# EAGLE library part HDSP-523A (library HDSP-523A)
LED Displays & Accessories Red 643nm 0.56in 7 Segment Source: Datasheet <https://docs.broadcom.com/doc/HDSP-521A-523A-Dual-Digit-General-Purpose-7-Segment-Display-DS>
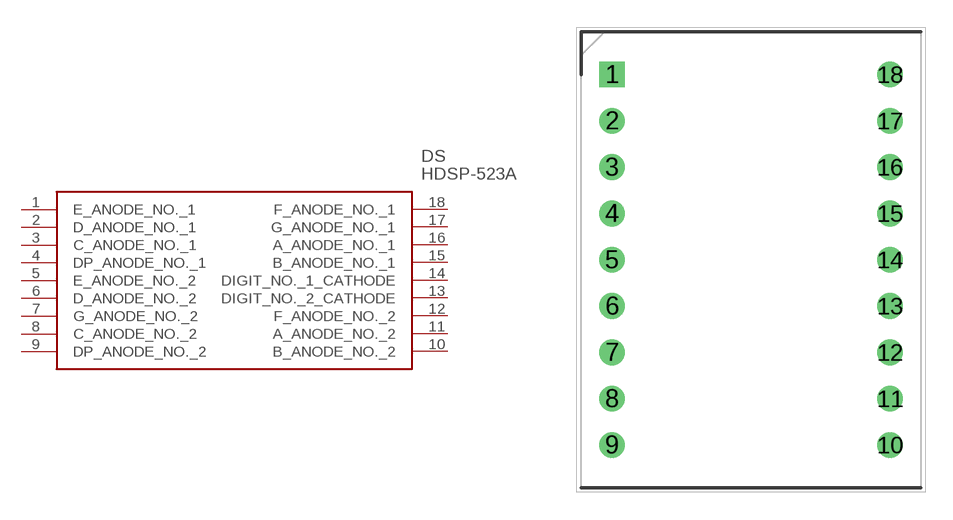
[diagram p0: symbol with the pads of DIPS1524W50P254L2500H800Q18N; footprint DIPS1524W50P254L2500H800Q18N]

Designator prefix DS

## HDSP-523A (Description: LED Displays & Accessories Red 643nm 0.56in 7 Segment; Height: 8mm; Manufacturer_Name: Avago Technologies; Manufacturer_Part_Number: HDSP-523A; Mouser_Part_Number: 630-HDSP-523A; Mouser_Price-Stock: https://www.mouser.co.uk/ProductDetail/Broadcom-Avago/HDSP-523A?qs=pQfy5%252BKCabJDIZsniRXu3w%3D%3D)  [DIPS1524W50P254L2500H800Q18N]
1  E_ANODE_NO._1
2  D_ANODE_NO._1
3  C_ANODE_NO._1
4  DP_ANODE_NO._1
5  E_ANODE_NO._2
6  D_ANODE_NO._2
7  G_ANODE_NO._2
8  C_ANODE_NO._2
9  DP_ANODE_NO._2
10  B_ANODE_NO._2
11  A_ANODE_NO._2
12  F_ANODE_NO._2
13  DIGIT_NO._2_CATHODE
14  DIGIT_NO._1_CATHODE
15  B_ANODE_NO._1
16  A_ANODE_NO._1
17  G_ANODE_NO._1
18  F_ANODE_NO._1

## Footprint DIPS1524W50P254L2500H800Q18N (pad centres in mm)
HDSP-523G
drill 0.9 pad 1.35 square: 1 0,0
drill 0.9 pad 1.35: 2 0,-2.54; 3 0,-5.08; 4 0,-7.62; 5 0,-10.16; 6 0,-12.7; 7 0,-15.24; 8 0,-17.78; 9 0,-20.32; 10 15.24,-20.32; 11 15.24,-17.78; 12 15.24,-15.24; 13 15.24,-12.7; 14 15.24,-10.16; 15 15.24,-7.62; 16 15.24,-5.08; 17 15.24,-2.54; 18 15.24,0